# Altium schematic symbol library Optocouplers.SchLib: 4 symbols
Pins are listed as number, name and electrical type; pins without a type are passive.

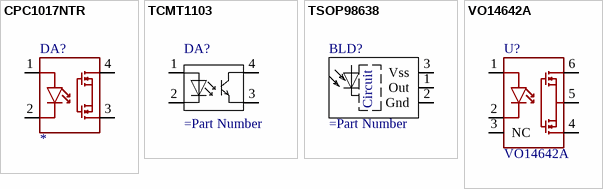
[diagram p0: symbols CPC1017NTR to VO14642A]

## CPC1017NTR
designator DA?
pins: 1, 2, 3, 4

## TCMT1103
designator DA?
pins: 1, 2, 3, 4

## TSOP98638
designator BLD?
pins: 1 Out, 2 Gnd, 3 Vss
text: Circuit

## VO14642A
designator U?
pins: 1, 2, 3 NC, 4, 5, 6